# Altium footprint library miniusb.PcbLIB: 15 footprints
Each footprint in its own frame and in the unit in brackets; x right, y up, seen from the top. Pads: shape width x height; smd on the part's side, far side on the other; paste and mask are expansions set on the pad; w line width, h text height; cw(c..) or ccw(c..) is an arc to the next point about the centre after c.
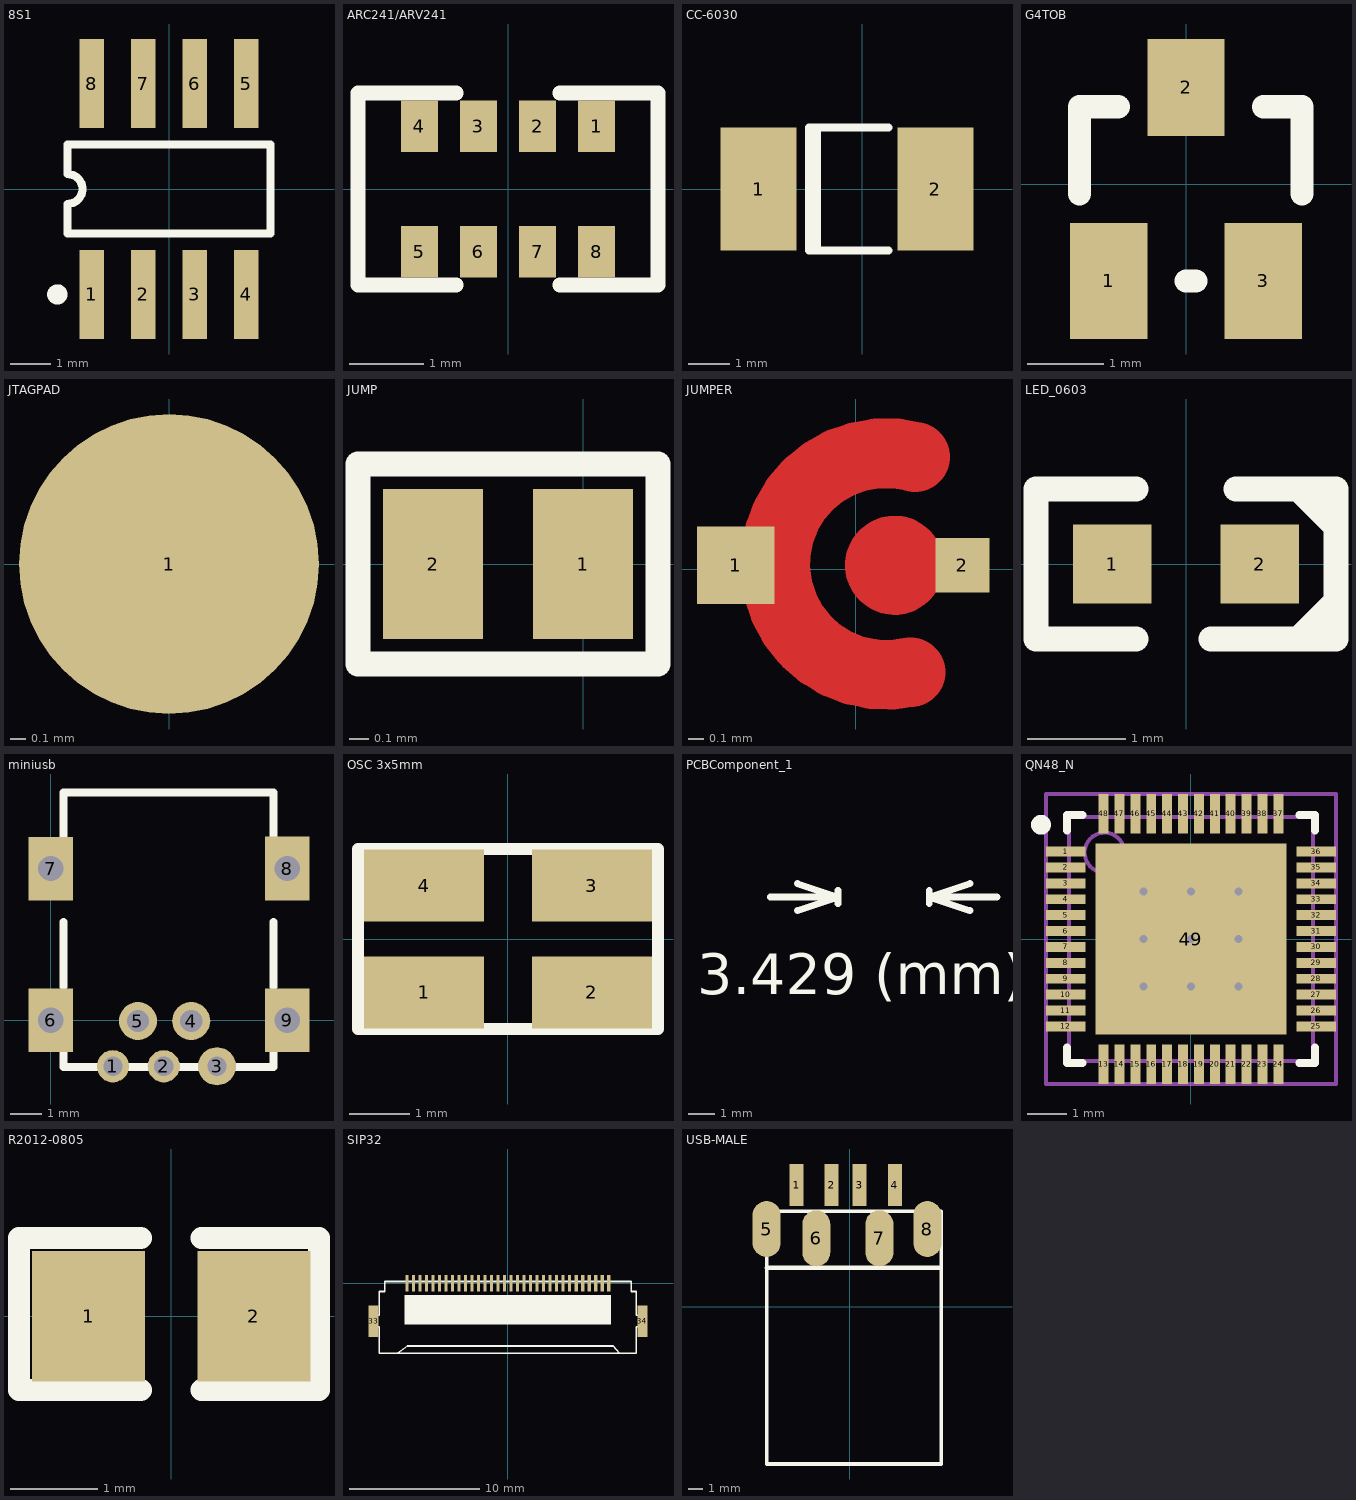
[diagram p0: the footprints below, top view; thin cyan lines are the x and y axes]

## 8S1 [mm] "Small Outline; 8 Leads; Body Width 3.9 mm; Pitch 1.27 mm"
height 1.73
pads (8):
  rect 0.6x2.2 smd: 1(-1.905,-2.6) 2(-0.635,-2.6) 3(0.635,-2.6) 4(1.905,-2.6) 5(1.905,2.6) 6(0.635,2.6) 7(-0.635,2.6) 8(-1.905,2.6)
TopOverlay:
  circle w0.25: c-2.755,-2.6 r0.125
  lines w0.2: -2.5,-1.1 2.5,-1.1 2.5,1.1 -2.5,1.1 -2.5,0.367 cw(c-2.5,0) -2.5,-0.367 -2.5,-1.1

## ARC241/ARV241 [mm]
height 6.43
pads (8):
  rect 0.5x0.7 smd: 1(1.2,0.85) 2(0.4,0.85) 3(-0.4,0.85) 4(-1.2,0.85) 5(-1.2,-0.85) 6(-0.4,-0.85) 7(0.4,-0.85) 8(1.2,-0.85)
TopOverlay:
  lines w0.2: -0.7,-1.3 -2.032,-1.3 -2.032,1.3 -0.7,1.3 ; 0.7,-1.3 2.032,-1.3 2.032,1.3 0.7,1.3

## CC-6030 [mm]
height 1.1
pads (2):
  rect 1.85x3 smd: 1(-2.525,0) 2(1.778,0)
TopOverlay:
  lines w0.2: -1.11,-1.5 -1.11,1.5 ; 0.64,-1.5 -1.3,-1.5 -1.3,1.5 0.64,1.5

## G4TOB [mil]
height 43.31
pads (3):
  rect 40x60 smd: 1(-40,-50) 3(40,-50)
  rect 40x50 smd: 2(0,50)
TopOverlay:
  lines w12: -55,-5 -55,40 -35,40 ; 0,-50 5,-50 ; 40,40 60,40 60,-5

## JTAGPAD [mm]
pads (1):
  round 2 smd: 1(0,0)

## JUMP [mil]
pads (2):
  rect 20x30 smd: 1(0,0) 2(-30,0)
TopOverlay:
  lines w5: -45,-20 -45,20 15,20 15,-20 -45,-20

## JUMPER [mm]
pads (2):
  rect 0.5x0.5 smd mask+0: 1(-0.775,0.025)
  rect 0.35x0.35 smd mask+0: 2(0.687,0.025)
TopLayer:
  circle w0.37: c0.25,0.025 r0.135
  lines w0.45: 0.353,-0.665 cw(c0.195,0.033) 0.382,0.724
TopSolder:
  circle w0.783: c-0.079,0 r0.279
  lines w0.401: 0.353,-0.665 cw(c0.195,0.033) 0.382,0.724

## LED_0603 [mm]
pads (2):
  rect 0.8x0.8 smd: 1(-0.75,0) 2(0.75,0)
TopOverlay:
  lines w0.25: -0.508,-0.762 -1.524,-0.762 -1.524,0.762 -1.016,0.762 -0.508,0.762 ; 0.254,-0.762 1.524,-0.762 1.524,0.762 0.508,0.762
  lines w0.254: 1.016,0.762 1.143,0.762 1.524,0.381 ; 1.143,-0.762 1.524,-0.381

## miniusb [mm]
pads (9):
  round 1.016 hole 0.6: 1(1.956,-1.448) 2(3.556,-1.448)
  round 1.2 hole 0.6: 3(5.232,-1.448)
  round 1.2 hole 0.7: 4(4.42,-0.024) 5(2.743,-0.024)
  rect 1.4x2 hole 0.8: 6(0,0) 7(0,4.775) 8(7.442,4.776) 9(7.442,0)
TopOverlay:
  lines w0.254: 0.406,-0.965 0.406,-1.473 7.01,-1.473 7.01,-0.965 ; 0.406,1.067 0.406,3.099 ; 0.406,5.131 0.406,7.163 7.01,7.163 7.01,5.131 ; 7.01,1.067 7.01,3.099
Mechanical1:
  lines w0.203: -0.425,4.039 -0.425,5.539 0.475,5.539 0.475,4.039 -0.425,4.039 ; -0.399,-0.75 -0.399,0.75 0.501,0.75 0.501,-0.75 -0.399,-0.75 ; 6.916,-0.75 6.916,0.75 7.816,0.75 7.816,-0.75 6.916,-0.75 ; 6.974,4.039 6.974,5.539 7.874,5.539 7.874,4.039 6.974,4.039

## OSC 3x5mm [mm]
height 1.1
pads (4):
  rect 2x1.2 smd: 1(-1.397,-0.889) 2(1.397,-0.889) 3(1.397,0.889) 4(-1.397,0.889)
TopOverlay:
  lines w0.2: -2.5,-1.5 2.5,-1.5 2.5,1.5 -2.5,1.5 -2.5,-1.5

## PCBComponent_1 [mm]
TopOverlay:
  lines w0.254: 5.461,13.97 8.001,13.97 ; 6.477,13.462 8.001,13.97 ; 6.477,14.478 8.001,13.97 ; 8.001,13.716 8.001,14.224 ; 11.43,13.716 11.43,14.224 ; 12.954,13.462 11.43,13.97 ; 12.954,14.478 11.43,13.97 ; 13.97,13.97 11.43,13.97
  text "3.429 (mm)" at 2.707,10.313 h1.52

## QN48_N [mm] "QFN, 48-Leads, Body 6x6 mm, Pitch 0.4mm, IPC Medium Density"
height 1
pads (49):
  rect 1x0.25 smd: 1(-3.15,2.2) 2(-3.15,1.8) 3(-3.15,1.4) 4(-3.15,1) 5(-3.15,0.6) 6(-3.15,0.2) 7(-3.15,-0.2) 8(-3.15,-0.6) 9(-3.15,-1) 10(-3.15,-1.4) 11(-3.15,-1.8) 12(-3.15,-2.2) 25(3.15,-2.2) 26(3.15,-1.8) 27(3.15,-1.4) 28(3.15,-1) 29(3.15,-0.6) 30(3.15,-0.2) 31(3.15,0.2) 32(3.15,0.6) 33(3.15,1) 34(3.15,1.4) 35(3.15,1.8) 36(3.15,2.2)
  rect 0.25x1 smd: 13(-2.2,-3.15) 14(-1.8,-3.15) 15(-1.4,-3.15) 16(-1,-3.15) 17(-0.6,-3.15) 18(-0.2,-3.15) 19(0.2,-3.15) 20(0.6,-3.15) 21(1,-3.15) 22(1.4,-3.15) 23(1.8,-3.15) 24(2.2,-3.15) 37(2.2,3.15) 38(1.8,3.15) 39(1.4,3.15) 40(1,3.15) 41(0.6,3.15) 42(0.2,3.15) 43(-0.2,3.15) 44(-0.6,3.15) 45(-1,3.15) 46(-1.4,3.15) 47(-1.8,3.15) 48(-2.2,3.15)
  rect 4.8x4.8 smd paste-2.4 mask+0.062: 49(0,0)
via -1.2,-1.2 diameter 0.5 hole 0.2
via 1.2,0 diameter 0.5 hole 0.2
via 0,0 diameter 0.5 hole 0.2
via 1.2,1.2 diameter 0.5 hole 0.2
via 1.2,-1.2 diameter 0.5 hole 0.2
via 0,-1.2 diameter 0.5 hole 0.2
via -1.2,1.2 diameter 0.5 hole 0.2
via 0,1.2 diameter 0.5 hole 0.2
via -1.2,0 diameter 0.5 hole 0.2
TopOverlay:
  circle w0.25: c-3.775,2.875 r0.125
  lines w0.2: -3.125,-2.725 -3.125,-3.125 -2.725,-3.125 ; -3.125,2.725 -3.125,3.125 -2.725,3.125 ; 2.725,-3.125 3.125,-3.125 3.125,-2.725 ; 2.725,3.125 3.125,3.125 3.125,2.725
TopPaste:
  rectangle: 0.1,-1.1 1.1,-0.1
  rectangle: 1.3,-2.3 2.3,-1.3
  rectangle: 1.3,-1.1 2.3,-0.1
  rectangle: 0.1,-2.3 1.1,-1.3
  region: -0.1,-0.1 -1.1,-0.1 -1.1,-1.1 -0.1,-1.1
  region: -1.3,-1.3 -2.3,-1.3 -2.3,-2.3 -1.3,-2.3
  region: -1.3,-0.1 -2.3,-0.1 -2.3,-1.1 -1.3,-1.1
  region: -0.1,-1.3 -1.1,-1.3 -1.1,-2.3 -0.1,-2.3
  region: -0.1,1.1 -1.1,1.1 -1.1,0.1 -0.1,0.1
  region: -1.3,2.3 -2.3,2.3 -2.3,1.3 -1.3,1.3
  region: -1.3,1.1 -2.3,1.1 -2.3,0.1 -1.3,0.1
  region: -0.1,2.3 -1.1,2.3 -1.1,1.3 -0.1,1.3
  rectangle: 0.1,1.3 1.1,2.3
  rectangle: 1.3,0.1 2.3,1.1
  rectangle: 1.3,1.3 2.3,2.3
  rectangle: 0.1,0.1 1.1,1.1
Mechanical13:
  circle w0.1: c-2.175,2.175 r0.5
  lines w0.1: -3.075,-3.075 -3.075,3.075 3.075,3.075 3.075,-3.075 -3.075,-3.075
Mechanical15:
  lines w0.1: -0.5,0 0.5,0 ; 0,-0.5 0,0.5 ; -3.65,-3.65 -3.65,3.65 3.65,3.65 3.65,-3.65 -3.65,-3.65
3D body: height 1, standoff 0, extent -3.074,-3.074 3.074,3.074

## R2012-0805 [mm] "Chip Resistor; Body 2.0 x 1.3 mm (LxW typ)"
height 0.65
pads (2):
  rect 1.3x1.5 smd: 1(-0.95,0) 2(0.95,0)
TopOverlay:
  lines w0.254: -0.35,-0.85 -1.75,-0.85 -1.75,0.9 -0.35,0.9 ; 0.35,-0.85 1.7,-0.85 1.7,0.9 0.35,0.9

## SIP32 [mm]
pads (34):
  rect 0.25x1.3 smd: 1(-7.75,0) 2(-7.25,0) 3(-6.75,0) 4(-6.25,0) 5(-5.75,0) 6(-5.25,0) 7(-4.75,0) 8(-4.25,0) 9(-3.75,0) 12(-2.25,0) 13(-1.75,0) 14(-1.25,0) 15(-0.75,0) 16(-0.25,0) 17(0.25,0) 18(0.75,0) 19(1.25,0) 20(1.75,0) 21(2.25,0) 22(2.75,0) 23(3.25,0) 24(3.75,0) 25(4.25,0) 26(4.75,0) 27(5.25,0) 28(5.75,0) 29(6.25,0) 30(6.75,0) 31(7.25,0) 32(7.75,0)
  rect 0.25x1.27 smd: 10(-3.25,0) 11(-2.75,0)
  rect 0.762x2.413 smd: 33(-10.312,-2.921) 34(10.338,-2.921)
TopOverlay:
  rectangle: -7.95,-3.175 7.925,-0.889
  lines w0.127: -8.484,-5.385 -7.719,-4.826 8.103,-4.826 8.585,-5.385 ; -10.183,-3.353 -10.183,-2.464 -9.878,-2.464 -9.878,-0.635 -9.472,-0.635 -9.472,0.127 9.477,0.127 9.477,-0.635 9.883,-0.635 9.883,-2.464 10.188,-2.464 10.188,-3.353 9.883,-3.353 9.883,-5.385 -9.878,-5.385 -9.878,-3.353 -10.183,-3.353

## USB-MALE [mm]
pads (8):
  rect 1x3 smd: 1(-3.8,8.7) 2(-1.3,8.7) 3(0.7,8.7) 4(3.2,8.7)
  oval 2x4 all layers, no hole: 5(-5.94,5.563) 6(-2.4,4.9) 7(2.1,4.9) 8(5.524,5.563)
TopOverlay:
  lines w0.254: -5.94,-11.201 -5.94,6.833 6.506,6.833 6.506,-11.201 -5.94,-11.201
  lines w0.3: -5.94,2.8 6.506,2.8
Mechanical1:
  lines w0.203: -6.492,4.064 -5.338,4.064 -5.338,6.961 -6.492,6.961 -6.492,4.064 ; -2.952,3.401 -2.952,6.298 -1.798,6.298 -1.798,3.401 -2.952,3.401 ; 1.548,3.401 1.548,6.298 2.702,6.298 2.702,3.401 1.548,3.401 ; 4.972,4.064 4.972,6.961 6.126,6.961 6.126,4.064 4.972,4.064